# Altium footprint library LIB_COLLAR.PcbLib: 34 footprints (part 2 of 3)
Each footprint in its own frame and in the unit in brackets; x right, y up, seen from the top. Pads: shape width x height; smd on the part's side, far side on the other; paste and mask are expansions set on the pad; w line width, h text height; cw(c..) or ccw(c..) is an arc to the next point about the centre after c.
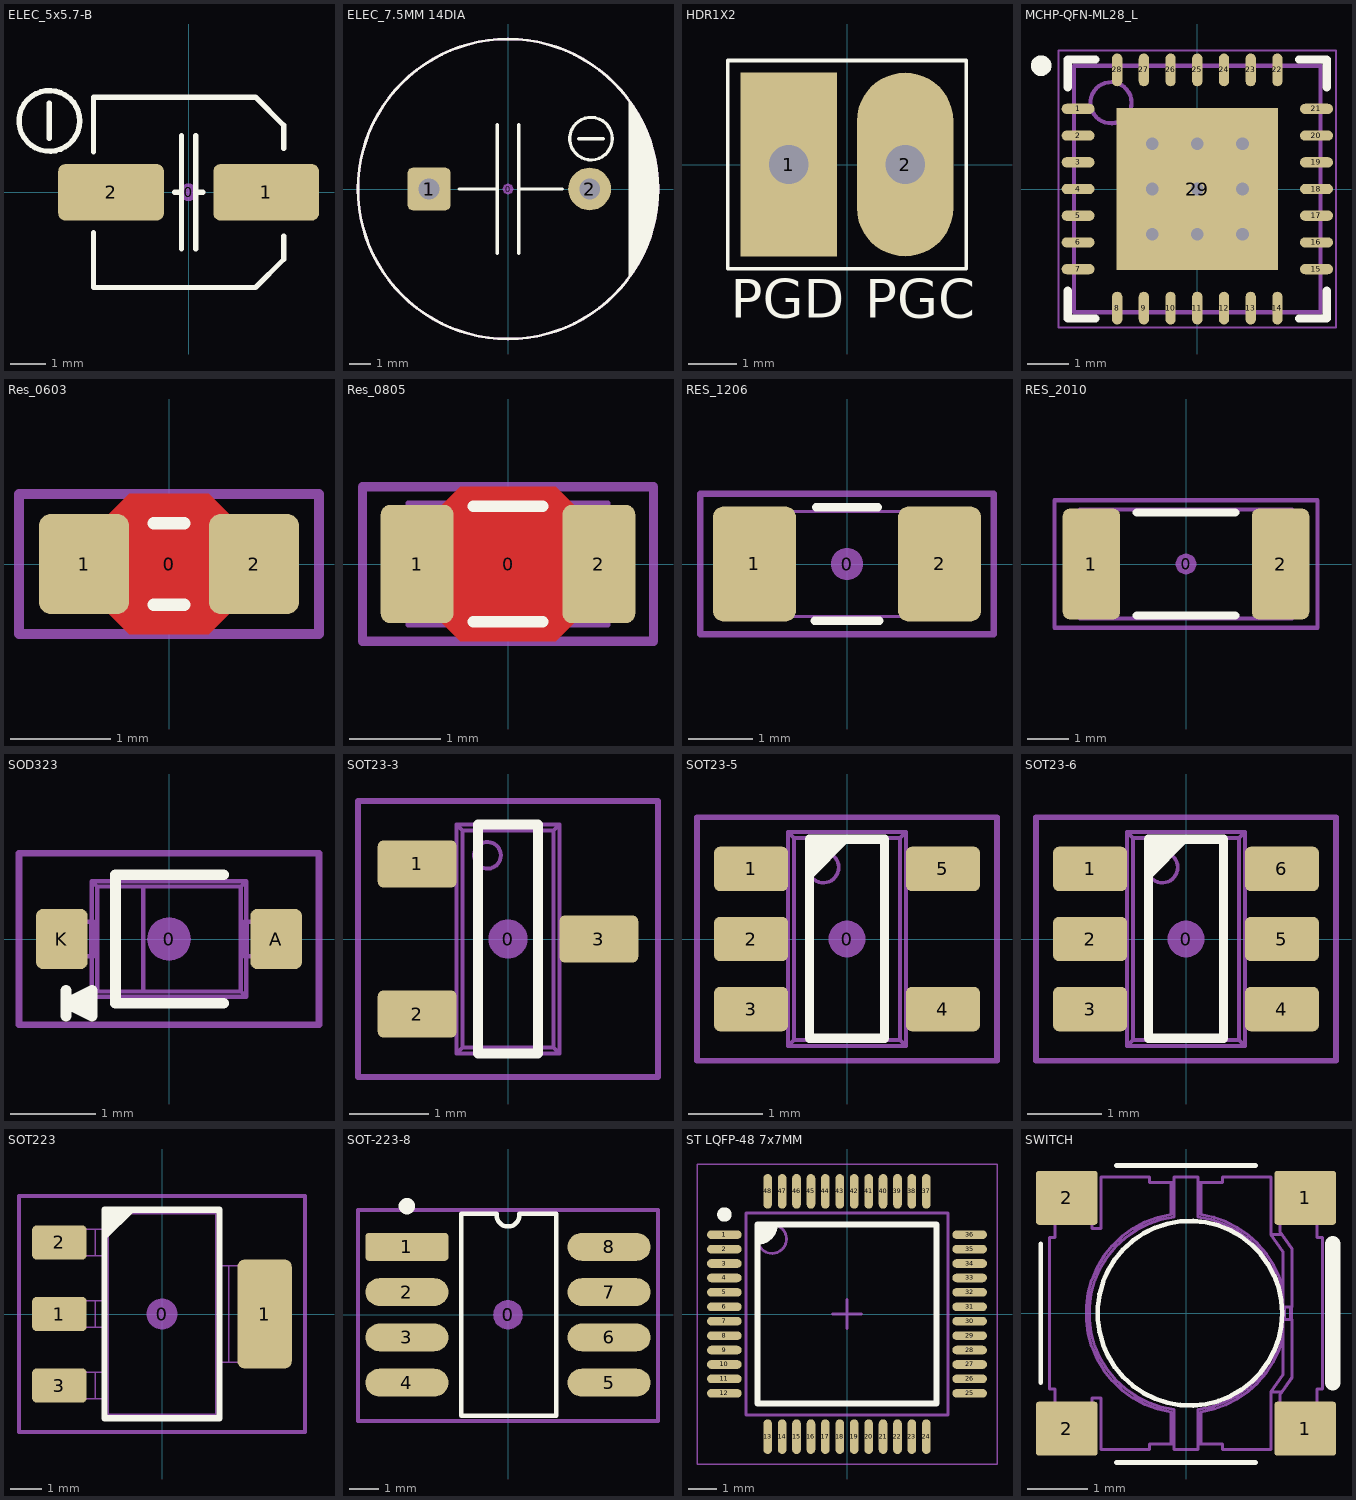
[diagram p1: the footprints below, top view; thin cyan lines are the x and y axes]

## ELEC_5x5.7-B [mm] "Capacitor, polarized, aluminum can; 5x5.7mm DxH"
height 5.7
pads (3):
  round 0.508 on Mech15: 0(0,0)
  rrect25% 3x1.6 smd: 1(2.2,0) 2(-2.2,0)
Top Overlay:
  circle w0.152: c-3.95,2.025 r0.862
  lines w0.152: -3.95,1.525 -3.95,2.525 ; -2.7,-1.15 -2.7,-2.7 1.9,-2.7 2.7,-1.9 2.7,-1.25 ; -2.7,1.15 -2.7,2.7 1.9,2.7 2.7,1.9 2.7,1.25 ; -0.4,0 -0.2,0 ; -0.2,-1.6 -0.2,1.6 ; 0.2,-1.6 0.2,1.6 ; 0.2,0 0.4,0
3D body "Cap, elec, 5x5.7_.STEP": height 5.7, standoff 0, extent -2.65,-2.65 2.65,2.65

## ELEC_7.5MM 14DIA [mm] "7.5mm Pitch Radial Capacitor 14mm DxH"
height 14
pads (3):
  round 0.5 on Mech15: 0(0,0)
  rrect25% 2x2 hole 0.965: 1(-3.683,0)
  round 2 hole 0.965: 2(3.81,0)
Top Overlay:
  drawing of 9 lines, arcs and shapes, not listed
Mechanical 15:
  circle w0.127: c0,0 r7

## HDR1X2 [mil] "Connector; Header; 2 Position"
pads (2):
  rect 78.74x150 hole 32: 1(-47.5,0)
  oval 78.74x150 hole 32: 2(47.5,0)
Top Overlay:
  lines w3: -97.5,-85 -97.5,85 97.5,85 97.5,-85 -97.5,-85
  text "PGD" at -95,-125 h31.5
  text "PGC" at 15,-125 h31.5

## MCHP-QFN-ML28_L [mm] "QFN, 28-Leads, Body 6x6mm, Pitch 0.65mm, Thermal Pad 3.7x3.7mm, IPC High Density"
height 1
pads (29):
  oval 0.8x0.25 smd: 1(-2.9,1.95) 2(-2.9,1.3) 3(-2.9,0.65) 4(-2.9,0) 5(-2.9,-0.65) 6(-2.9,-1.3) 7(-2.9,-1.95) 15(2.9,-1.95) 16(2.9,-1.3) 17(2.9,-0.65) 18(2.9,0) 19(2.9,0.65) 20(2.9,1.3) 21(2.9,1.95)
  oval 0.25x0.8 smd: 8(-1.95,-2.9) 9(-1.3,-2.9) 10(-0.65,-2.9) 11(0,-2.9) 12(0.65,-2.9) 13(1.3,-2.9) 14(1.95,-2.9) 22(1.95,2.9) 23(1.3,2.9) 24(0.65,2.9) 25(0,2.9) 26(-0.65,2.9) 27(-1.3,2.9) 28(-1.95,2.9)
  rect 3.93x3.93 smd: 29(0,0)
via -1.1,1.1 diameter 0.61 hole 0.305
via 0,1.1 diameter 0.61 hole 0.305
via 1.1,1.1 diameter 0.61 hole 0.305
via -1.1,0 diameter 0.61 hole 0.305
via 0,0 diameter 0.61 hole 0.305
via 1.1,0 diameter 0.61 hole 0.305
via -1.1,-1.1 diameter 0.61 hole 0.305
via 0,-1.1 diameter 0.61 hole 0.305
via 1.1,-1.1 diameter 0.61 hole 0.305
Top Overlay:
  circle w0.25: c-3.8,3 r0.125
  lines w0.2: -3.15,-2.475 -3.15,-3.15 -2.475,-3.15 ; -3.15,2.475 -3.15,3.15 -2.475,3.15 ; 2.475,-3.15 3.15,-3.15 3.15,-2.475 ; 2.475,3.15 3.15,3.15 3.15,2.475
Mechanical 13:
  circle w0.1: c-2.1,2.1 r0.5
  lines w0.1: -3,-3 -3,3 3,3 3,-3 -3,-3
Mechanical 15:
  lines w0.05: -3.375,-3.375 -3.375,3.375 3.375,3.375 3.375,-3.375 -3.375,-3.375
  lines w0.1: -0.5,0 0.5,0 ; 0,-0.5 0,0.5
3D body: height 1, standoff 0, extent -3,-3 3,3

## Res_0603 [mm] "Chip Resistor, Body 1.6x0.8mm, 0603, IPC Medium Density"
height 0.55
pads (3):
  round 0.254 on Mech15: 0(0,0)
  rrect25% 0.9x1 smd: 1(-0.85,0) 2(0.85,0)
Top Layer:
  pour cut-out: -0.6,0.5 -0.4,0.7 0.4,0.7 0.6,0.5 0.6,-0.5 0.4,-0.7 -0.4,-0.7 -0.6,-0.5
Top Overlay:
  lines w0.127: -0.152,-0.406 0.152,-0.406 ; -0.152,0.406 0.152,0.406
Mechanical 13:
  lines w0.05: -0.875,-0.475 -0.875,0.475 -0.475,0.475 -0.475,-0.475 -0.875,-0.475 ; -0.475,-0.474 0.475,-0.474 -0.475,-0.474 ; -0.475,0.474 0.475,0.474 -0.475,0.474 ; 0.475,-0.475 0.875,-0.475 0.875,0.475 0.475,0.475 0.475,-0.475
Mechanical 15:
  lines w0.1: -1.5,-0.7 -1.5,0.7 1.5,0.7 1.5,-0.7 -1.5,-0.7
3D body "RES 0603 (1608 metric).STEP": height 0.54, standoff -0.01, extent -0.875,-0.475 0.875,0.475

## Res_0805 [mm] "Chip Resistor, Body 2.0x1.2mm, 0805, IPC Medium Density"
height 0.7
pads (3):
  round 0.254 on Mech15: 0(0,0)
  rrect25% 0.8x1.3 smd: 1(-1,0) 2(1,0)
Top Layer:
  pour cut-out: -0.725,0.65 -0.525,0.85 0.525,0.85 0.725,0.65 0.725,-0.65 0.525,-0.85 -0.525,-0.85 -0.725,-0.65
Top Overlay:
  lines w0.127: -0.381,-0.635 0.381,-0.635 ; -0.381,0.635 0.381,0.635
Mechanical 13:
  lines w0.05: 0.6,-0.674 -0.6,-0.674 ; -0.6,-0.675 -0.6,0.675 -1.1,0.675 -1.1,-0.675 -0.6,-0.675 ; -0.6,-0.674 0.6,-0.674 ; 0.6,-0.675 0.6,0.675 ; 0.6,-0.675 1.1,-0.675 1.1,0.675 0.6,0.675 ; 0.6,0.674 -0.6,0.674 0.6,0.674
Mechanical 15:
  lines w0.1: -1.6,-0.85 1.6,-0.85 1.6,0.85 -1.6,0.85 -1.6,-0.85
3D body "RES 0805 (2012 metric).STEP": height 0.69, standoff -0.01, extent -1.1,-0.675 1.1,0.675

## RES_1206 [mm] "Chip Resistor, Body 3.2x1.6mm, 1206, IPC Medium Density"
height 0.7
pads (3):
  round 0.508 on Mech15: 0(0,0)
  rrect25% 1.3x1.8 smd: 1(-1.45,0) 2(1.45,0)
Top Overlay:
  lines w0.127: -0.508,-0.889 0.508,-0.889 ; -0.483,0.889 0.483,0.889
Mechanical 13:
  lines w0.05: 1.025,-0.824 -1.025,-0.824 1.025,-0.824 ; -1.625,-0.825 -1.025,-0.825 -1.025,0.825 -1.625,0.825 -1.625,-0.825 ; -1.025,0.824 1.025,0.824 -1.025,0.824 ; 1.025,-0.825 1.025,0.825 1.625,0.825 1.625,-0.825 1.025,-0.825
Mechanical 15:
  lines w0.1: -2.3,-1.1 -2.3,1.1 2.3,1.1 2.3,-1.1 -2.3,-1.1
3D body "RES 1206 (3216 metric).STEP": height 0.69, standoff -0.01, extent -1.625,-0.825 1.625,0.825

## RES_2010 [mm] "Chip Resistor, Body 5.0x2.5mm, 2010, IPC Medium Density"
height 0.7
pads (3):
  round 0.508 on Mech15: 0(0,0)
  rrect25% 1.4x2.7 smd: 1(-2.3,0) 2(2.3,0)
Top Overlay:
  lines w0.2: -1.2,-1.25 1.2,-1.25 ; -1.2,1.25 1.2,1.25
Mechanical 13:
  lines w0.1: -2.575,-1.325 2.575,-1.325 2.575,1.325 -2.575,1.325 -2.575,-1.325
Mechanical 15:
  lines w0.1: -3.2,-1.55 3.2,-1.55 3.2,1.55 -3.2,1.55 -3.2,-1.55
3D body "RES 2010 (5025 metric).STEP": height 0.69, standoff -0.01, extent -2.6,-1.35 2.6,1.35

## SOD323 [mm] "SOD-323; 2 Leads; Body 1.8 x 1.35 mm, (LxW)"
height 1.15
pads (3):
  round 0.508 on Mech15: 0(0,0)
  rrect25% 0.6x0.7 smd: A(1.25,0) K(-1.25,0)
Top Overlay:
  lines w0.127: -1.2,-0.9 -1.2,-0.6 ; -0.9,-0.75 -1.2,-0.75 ; 0.635,-0.75 -0.625,-0.75 -0.625,0.75 0.635,0.75 ; -1.2,-0.75 -0.9,-0.9 -0.9,-0.6 -1.2,-0.75
Mechanical 13:
  lines w0.05: -1.157,-0.2 -1.157,0.2 ; -1.11,-0.2 -1.11,0.2 ; -0.91,-0.2 -0.91,0.2 ; -0.9,-0.2 -0.9,-0.675 ; -0.9,0.2 -0.9,0.675 ; 0.9,-0.2 0.9,-0.675 ; 0.9,0.2 0.9,0.675 ; 0.91,-0.2 0.91,0.2 ; 1.11,-0.2 1.11,0.2 ; 1.157,-0.2 1.157,0.2 ; -0.9,-0.675 -0.838,-0.613 ; -0.9,-0.675 0.9,-0.675 ; -0.9,0.675 0.9,0.675 ; -0.9,0.675 -0.838,0.613 ; -0.838,-0.613 -0.838,0.613 ; -0.838,-0.613 -0.3,-0.613 ; -0.838,0.613 -0.3,0.613 ; -0.3,-0.613 -0.3,0.613 ; -0.3,-0.613 0.838,-0.613 ; -0.3,0.613 0.838,0.613 ; 0.838,-0.613 0.838,0.613 ; 0.838,-0.613 0.9,-0.675 ; 0.838,0.613 0.9,0.675 ; -1.3,-0.2 -1.3,0.2 -0.879,0.2 -0.879,-0.2 -1.3,-0.2 ; 0.879,-0.2 1.3,-0.2 1.3,0.2 0.879,0.2 0.879,-0.2
Mechanical 15:
  lines w0.076: -1.75,-1 -1.75,1 1.75,1 1.75,-1 -1.75,-1
3D body "SOD323.STEP": height 1.1, standoff 0, extent -1.3,-0.675 1.3,0.675

## SOT23-3 [mm] "SOT23, 3 pin"
height 1.003
pads (4):
  round 0.5 on Mech15: 0(0,0)
  rrect25% 1x0.6 smd: 1(-1.15,0.95) 2(-1.15,-0.95) 3(1.15,0)
Top Overlay:
  lines w0.127: -0.381,-1.45 0.381,-1.45 0.381,1.45 -0.381,1.45 -0.381,-1.45
  text "." at -2.125,0.95 h0.1
Mechanical 13:
  circle w0.05: c-0.26,1.06 r0.169
  lines w0.05: -1.19,-1.19 -1.19,-0.71 ; -1.19,0.71 -1.19,1.19 ; -1.099,-1.19 -1.099,-0.71 ; -1.099,0.71 -1.099,1.19 ; -1.074,-1.19 -1.074,-0.71 ; -1.074,0.71 -1.074,1.19 ; -0.825,-1.19 -0.825,-0.71 ; -0.825,0.71 -0.825,1.19 ; -0.65,-1.19 -1.4,-1.19 -1.4,-0.71 -0.65,-0.71 ; -0.65,0.71 -1.4,0.71 -1.4,1.19 -0.65,1.19 ; 0.65,-0.24 1.4,-0.24 1.4,0.24 0.65,0.24 ; 0.825,-0.24 0.825,0.24 ; 1.074,-0.24 1.074,0.24 ; 1.099,-0.24 1.099,0.24 ; 1.19,-0.24 1.19,0.24 ; -0.65,-1.45 -0.576,-1.376 ; -0.65,-1.45 -0.65,1.45 ; -0.65,-1.45 0.65,-1.45 ; -0.65,1.45 0.65,1.45 ; -0.65,1.45 -0.576,1.376 ; -0.576,-1.376 -0.576,1.376 ; -0.576,-1.376 0.576,-1.376 ; -0.576,1.376 0.576,1.376 ; 0.576,-1.376 0.576,1.376 ; 0.576,-1.376 0.65,-1.45 ; 0.576,1.376 0.65,1.45 ; 0.65,-1.45 0.65,1.45
Mechanical 15:
  lines w0.076: -1.9,-1.75 1.9,-1.75 1.9,1.75 -1.9,1.75 -1.9,-1.75
3D body "SOT23-3.STEP": height 1.29, standoff -0.01, extent -1.4,-1.45 1.4,1.45

## SOT23-5 [mm]
height 1.6
pads (6):
  round 0.5 on Mech15: 0(0,0)
  rrect25% 1x0.6 smd: 1(-1.3,0.95) 2(-1.3,0) 3(-1.3,-0.95) 4(1.3,-0.95) 5(1.3,0.95)
Top Overlay:
  region: -0.508,1.353 0.053,1.353 -0.508,0.792
  lines w0.127: -0.508,-1.347 -0.508,1.353 0.508,1.353 0.508,-1.347 -0.508,-1.347
  text "." at -2.275,0.95 h0.1
Mechanical 13:
  circle w0.05: c-0.32,0.97 r0.208
  lines w0.05: -1.191,-1.15 -1.191,-0.75 ; -1.191,-0.2 -1.191,0.2 ; -1.191,0.75 -1.191,1.15 ; -1.1,-1.15 -1.1,-0.75 ; -1.1,-0.2 -1.1,0.2 ; -1.1,0.75 -1.1,1.15 ; -1.094,-1.15 -1.094,-0.75 ; -1.094,-0.2 -1.094,0.2 ; -1.094,0.75 -1.094,1.15 ; -0.844,-1.15 -0.844,-0.75 ; -0.844,-0.2 -0.844,0.2 ; -0.844,0.75 -0.844,1.15 ; -0.8,-1.15 -1.4,-1.15 -1.4,-0.75 -0.8,-0.75 ; -0.8,-0.2 -1.4,-0.2 -1.4,0.2 -0.8,0.2 ; -0.8,0.75 -1.4,0.75 -1.4,1.15 -0.8,1.15 ; 0.8,-1.15 1.4,-1.15 1.4,-0.75 0.8,-0.75 ; 0.8,0.75 1.4,0.75 1.4,1.15 0.8,1.15 ; 0.844,-1.15 0.844,-0.75 ; 0.844,0.75 0.844,1.15 ; 1.094,-1.15 1.094,-0.75 ; 1.094,0.75 1.094,1.15 ; 1.1,-1.15 1.1,-0.75 ; 1.1,0.75 1.1,1.15 ; 1.191,-1.15 1.191,-0.75 ; 1.191,0.75 1.191,1.15 ; -0.8,-1.45 -0.8,1.45 ; -0.8,-1.45 -0.719,-1.369 ; -0.8,-1.45 0.8,-1.45 ; -0.8,1.45 -0.719,1.369 ; -0.8,1.45 0.8,1.45 ; -0.719,-1.369 0.719,-1.369 ; -0.719,-1.369 -0.719,1.369 ; -0.719,1.369 0.719,1.369 ; 0.719,-1.369 0.8,-1.45 ; 0.719,-1.369 0.719,1.369 ; 0.719,1.369 0.8,1.45 ; 0.8,-1.45 0.8,1.45
Mechanical 15:
  lines w0.076: -2.032,-1.651 -2.032,1.651 2.032,1.651 2.032,-1.651 -2.032,-1.651
3D body "SOT23-5.STEP": height 1.44, standoff -0.01, extent -1.4,-1.45 1.4,1.45

## SOT23-6 [mm]
height 1.6
pads (7):
  round 0.5 on Mech15: 0(0,0)
  rrect25% 1x0.6 smd: 1(-1.3,0.95) 2(-1.3,0) 3(-1.3,-0.95) 4(1.3,-0.95) 5(1.3,0) 6(1.3,0.95)
Top Overlay:
  region: -0.508,1.353 0.053,1.353 -0.508,0.792
  lines w0.127: -0.508,-1.347 -0.508,1.353 0.508,1.353 0.508,-1.347 -0.508,-1.347
  text "." at -2.275,0.95 h0.1
Mechanical 13:
  circle w0.05: c-0.32,0.97 r0.208
  lines w0.05: -1.191,-1.15 -1.191,-0.75 ; -1.191,-0.2 -1.191,0.2 ; -1.191,0.75 -1.191,1.15 ; -1.1,-1.15 -1.1,-0.75 ; -1.1,-0.2 -1.1,0.2 ; -1.1,0.75 -1.1,1.15 ; -1.094,-1.15 -1.094,-0.75 ; -1.094,-0.2 -1.094,0.2 ; -1.094,0.75 -1.094,1.15 ; -0.844,-1.15 -0.844,-0.75 ; -0.844,-0.2 -0.844,0.2 ; -0.844,0.75 -0.844,1.15 ; -0.8,-1.15 -1.4,-1.15 -1.4,-0.75 -0.8,-0.75 ; -0.8,-0.2 -1.4,-0.2 -1.4,0.2 -0.8,0.2 ; -0.8,0.75 -1.4,0.75 -1.4,1.15 -0.8,1.15 ; 0.8,-1.15 1.4,-1.15 1.4,-0.75 0.8,-0.75 ; 0.8,-0.2 1.4,-0.2 1.4,0.2 0.8,0.2 ; 0.8,0.75 1.4,0.75 1.4,1.15 0.8,1.15 ; 0.844,-1.15 0.844,-0.75 ; 0.844,-0.2 0.844,0.2 ; 0.844,0.75 0.844,1.15 ; 1.094,-1.15 1.094,-0.75 ; 1.094,-0.2 1.094,0.2 ; 1.094,0.75 1.094,1.15 ; 1.1,-1.15 1.1,-0.75 ; 1.1,-0.2 1.1,0.2 ; 1.1,0.75 1.1,1.15 ; 1.191,-1.15 1.191,-0.75 ; 1.191,-0.2 1.191,0.2 ; 1.191,0.75 1.191,1.15 ; -0.8,-1.45 0.8,-1.45 ; -0.8,-1.45 -0.719,-1.369 ; -0.8,-1.45 -0.8,1.45 ; -0.8,1.45 0.8,1.45 ; -0.8,1.45 -0.719,1.369 ; -0.719,-1.369 -0.719,1.369 ; -0.719,-1.369 0.719,-1.369 ; -0.719,1.369 0.719,1.369 ; 0.719,-1.369 0.719,1.369 ; 0.719,-1.369 0.8,-1.45 ; 0.719,1.369 0.8,1.45 ; 0.8,-1.45 0.8,1.45
Mechanical 15:
  lines w0.076: -2.032,-1.651 -2.032,1.651 2.032,1.651 2.032,-1.651 -2.032,-1.651
3D body "SOT23-6.STEP": height 1.44, standoff -0.01, extent -1.4,-1.45 1.4,1.45

## SOT223 [mm] "SOT223 /SC-73"
height 1.524
pads (5):
  round 1 on Mech15: 0(0,0)
  rrect25% 1.75x1.1 smd: 1(-3.3,0) 2(-3.3,2.3) 3(-3.3,-2.3)
  rrect25% 1.75x3.5 smd: 1(3.3,0)
Top Overlay:
  region: -1.85,3.35 -0.85,3.35 -1.85,2.35
  lines w0.2: -1.85,-3.35 -1.85,3.35 1.85,3.35 1.85,-3.35 -1.85,-3.35
Mechanical 13:
  lines w0.05: -3.186,-2.72 -3.186,-1.88 ; -3.186,-0.42 -3.186,0.42 ; -3.186,1.88 -3.186,2.72 ; -3.062,-2.72 -3.062,-1.88 ; -3.062,-0.42 -3.062,0.42 ; -3.062,1.88 -3.062,2.72 ; -2.506,-2.72 -2.506,-1.88 ; -2.506,-0.42 -2.506,0.42 ; -2.506,1.88 -2.506,2.72 ; -2.152,-2.72 -2.152,-1.88 ; -2.152,-0.42 -2.152,0.42 ; -2.152,1.88 -2.152,2.72 ; -1.85,-2.72 -1.85,-3.35 ; -1.85,-1.88 -1.85,-0.42 ; -1.85,0.42 -1.85,1.88 ; -1.85,2.72 -1.85,3.35 ; 1.85,-1.55 1.85,-3.35 ; 1.85,1.55 1.85,3.35 ; 2.152,-1.55 2.152,1.55 ; 2.506,-1.55 2.506,1.55 ; 3.062,-1.55 3.062,1.55 ; 3.186,-1.55 3.186,1.55 ; -1.85,-3.35 -1.731,-3.231 ; -1.85,-3.35 1.85,-3.35 ; -1.85,3.35 -1.731,3.231 ; -1.85,3.35 1.85,3.35 ; -1.731,-3.231 1.731,-3.231 ; -1.731,-3.231 -1.731,3.231 ; -1.731,3.231 1.731,3.231 ; 1.731,-3.231 1.85,-3.35 ; 1.731,-3.231 1.731,3.231 ; 1.731,3.231 1.85,3.35 ; -3.65,-2.72 -3.65,-1.88 -1.829,-1.88 -1.829,-2.72 -3.65,-2.72 ; -3.65,-0.42 -3.65,0.42 -1.829,0.42 -1.829,-0.42 -3.65,-0.42 ; -3.65,1.88 -3.65,2.72 -1.829,2.72 -1.829,1.88 -3.65,1.88 ; 1.829,-1.55 3.65,-1.55 3.65,1.55 1.829,1.55 1.829,-1.55
Mechanical 15:
  lines w0.127: -4.6,-3.8 -4.6,3.8 4.6,3.8 4.6,-3.8 -4.6,-3.8
3D body "SOT223-4.STEP": height 1.8, standoff 0, extent -3.65,-3.35 3.65,3.35

## SOT-223-8 [mil]
pads (9):
  round 39.37 on Mech15: 0(0,0)
  rrect25% 110x37 smd: 1(-134,90)
  oval 110x37 smd: 2(-134,30) 3(-134,-30) 4(-134,-90) 5(134,-90) 6(134,-30) 7(134,30) 8(134,90)
Top Overlay:
  circle w19.68: c-134,144 r1
  lines w6: -15,132 ccw(c0,132) 15,132 ; -15,134 -29,134 -62,134 -62,-134 64,-134 64,134 15,134
Mechanical 15:
  lines w5: -198.82,-141 -198.82,139 198.82,139 198.82,-141 -198.82,-141
3D body "SM8.stp": height 66.93, standoff 0.09, extent -142.75,-129.92 142.76,129.92

## ST LQFP-48 7x7MM [mm] "LQFP, 48-Leads, Body 7.00x7.00mm, Pitch 0.50mm, IPC Medium Density"
height 1.6
pads (48):
  oval 1.2x0.3 smd: 1(-4.25,2.75) 2(-4.25,2.25) 3(-4.25,1.75) 4(-4.25,1.25) 5(-4.25,0.75) 6(-4.25,0.25) 7(-4.25,-0.25) 8(-4.25,-0.75) 9(-4.25,-1.25) 10(-4.25,-1.75) 11(-4.25,-2.25) 12(-4.25,-2.75) 25(4.25,-2.75) 26(4.25,-2.25) 27(4.25,-1.75) 28(4.25,-1.25) 29(4.25,-0.75) 30(4.25,-0.25) 31(4.25,0.25) 32(4.25,0.75) 33(4.25,1.25) 34(4.25,1.75) 35(4.25,2.25) 36(4.25,2.75)
  oval 0.3x1.2 smd: 13(-2.75,-4.25) 14(-2.25,-4.25) 15(-1.75,-4.25) 16(-1.25,-4.25) 17(-0.75,-4.25) 18(-0.25,-4.25) 19(0.25,-4.25) 20(0.75,-4.25) 21(1.25,-4.25) 22(1.75,-4.25) 23(2.25,-4.25) 24(2.75,-4.25) 37(2.75,4.25) 38(2.25,4.25) 39(1.75,4.25) 40(1.25,4.25) 41(0.75,4.25) 42(0.25,4.25) 43(-0.25,4.25) 44(-0.75,4.25) 45(-1.25,4.25) 46(-1.75,4.25) 47(-2.25,4.25) 48(-2.75,4.25)
Top Overlay:
  circle w0.25: c-4.25,3.45 r0.125
  region: -3.1,3.1 -2.5,3.1 -2.5,2.8 -2.8,2.5 -3.1,2.5
  lines w0.2: -3.1,2.5 ccw(c-3.1,3.1) -2.5,3.1 ; -3.1,-3.1 -3.1,3.1 3.1,3.1 3.1,-3.1 -3.1,-3.1
Mechanical 13:
  circle w0.1: c-2.6,2.6 r0.5
  lines w0.1: -3.5,-3.5 -3.5,3.5 3.5,3.5 3.5,-3.5 -3.5,-3.5
Mechanical 15:
  lines w0.05: -5.2,-5.2 -5.2,5.2 5.2,5.2 5.2,-5.2 -5.2,-5.2
  lines w0.1: -0.5,0 0.5,0 ; 0,-0.5 0,0.5
3D body "LQFP-48-7x7mm.STEP": height 1.55, standoff 0, extent -4.51,-4.51 4.511,4.511

## SWITCH [mil] "Panasonic SMD tact switch 4.5x4.5x0.55mm, EVQPQxB55"
height 21.65
pads (4):
  rrect10% 40x35 smd: 1(77.5,-75) 1(77.5,75) 2(-77.5,-75) 2(-77.5,75)
Top Overlay:
  circle w3: c2.5,0 r60
  lines w3: -94.5,-45.28 -94.5,45.28 ; -45.28,-97 45.28,-97 ; -45.28,96 45.28,96
  lines w10: 95.5,-45.28 95.5,45.28
Mechanical 13:
  lines w1.97: -85.04,-84.12 -61.02,-84.12 ; -85.04,-79.15 -61.02,-79.15 ; -85.04,-77.22 -61.02,-77.22 ; -85.04,-68.45 -61.02,-68.45 ; -85.04,-66.52 -61.02,-66.52 ; -85.04,-62.25 -61.02,-62.25 ; -85.04,-58.68 -61.02,-58.68 ; -85.04,58.68 -61.02,58.68 ; -85.04,62.25 -61.02,62.25 ; -85.04,66.52 -61.02,66.52 ; -85.04,68.45 -61.02,68.45 ; -85.04,77.22 -61.02,77.22 ; -85.04,79.15 -61.02,79.15 ; -85.04,84.12 -61.02,84.12 ; -9.84,-85.04 -9.84,-64.21 cw(c0,0) -9.84,64.21 -9.84,85.04 ; -7.87,-85.04 -23.62,-85.04 -23.62,-88.58 -55.12,-88.58 -55.12,-55.12 -61.02,-55.12 -61.02,-86.61 -85.04,-86.61 -85.04,-49.21 -88.58,-49.21 -88.58,49.21 -85.04,49.21 -85.04,86.61 -61.02,86.61 -61.02,55.12 -55.12,55.12 -55.12,88.58 -23.62,88.58 -23.62,85.04 -7.87,85.04 ; -7.87,-62.5 -7.87,-88.58 7.87,-88.58 7.87,-62.5 ; -7.87,62.5 -7.87,88.58 7.87,88.58 7.87,62.5 ; -7.81,-62.51 cw(c0,0) -7.81,62.51 ; 7.81,-62.51 ccw(c0,0) 7.81,62.51 ; 7.87,-85.04 23.62,-85.04 23.62,-88.58 55.12,-88.58 55.12,-51.29 62.99,-40.04 62.99,40.04 55.12,51.29 55.12,88.58 23.62,88.58 23.62,85.04 7.87,85.04 ; 9.84,-85.04 9.84,-64.21 ccw(c0,0) 62.99,-15.87 ; 9.84,85.04 9.84,64.21 cw(c0,0) 62.99,15.87 ; 55.19,-51.18 62.4,-51.18 ; 55.19,51.18 62.4,51.18 ; 61.02,-84.12 85.04,-84.12 ; 61.02,-79.15 85.04,-79.15 ; 61.02,-77.22 85.04,-77.22 ; 61.02,-68.45 85.04,-68.45 ; 61.02,-66.52 85.04,-66.52 ; 61.02,-62.25 85.04,-62.25 ; 61.02,-58.68 85.04,-58.68 ; 61.02,58.68 85.04,58.68 ; 61.02,62.25 85.04,62.25 ; 61.02,66.52 85.04,66.52 ; 61.02,68.45 85.04,68.45 ; 61.02,77.22 85.04,77.22 ; 61.02,79.15 85.04,79.15 ; 61.02,84.12 85.04,84.12 ; 64.09,-3.94 64.09,3.94 ; 67.8,-3.94 67.8,3.94 ; 68.44,-3.94 68.44,3.94 ; 61.02,-86.61 61.02,-53.15 68.9,-41.9 68.9,-3.94 63.45,-3.94 63.45,3.94 68.9,3.94 68.9,41.9 61.02,53.15 61.02,86.61 85.04,86.61 85.04,49.21 88.58,49.21 88.58,-49.21 85.04,-49.21 85.04,-86.61 61.02,-86.61
3D body "TACT_EVQ-PQHB55.STEP": height 21.65, standoff 0, extent -88.57,-88.58 88.59,88.59